# Altium footprint library LQFP32(7.0X7.0).PcbLib: 1 footprints
Each footprint in its own frame and in the unit in brackets; x right, y up, seen from the top. Pads: shape width x height; smd on the part's side, far side on the other; paste and mask are expansions set on the pad; w line width, h text height; cw(c..) or ccw(c..) is an arc to the next point about the centre after c.
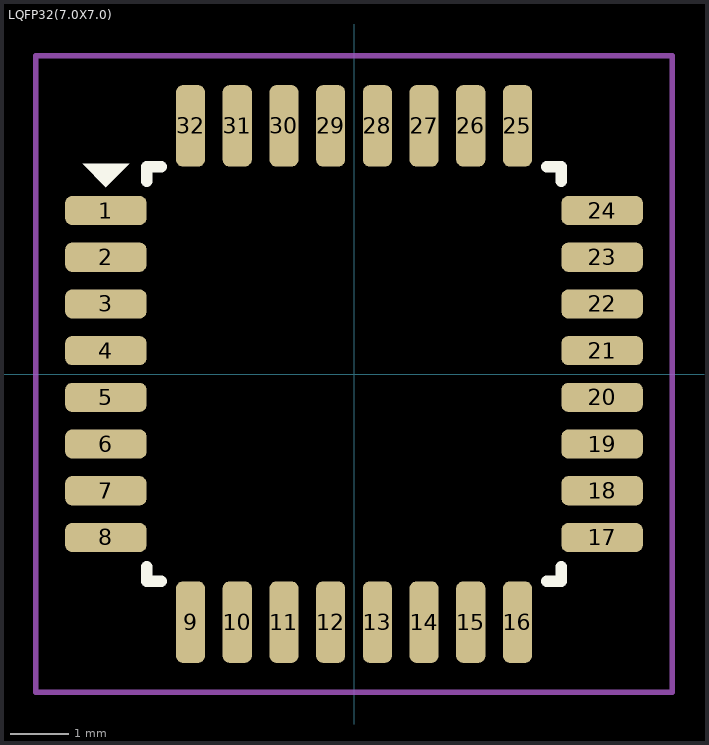
[diagram p0: the footprint, top view; thin cyan lines are the x and y axes]

## LQFP32(7.0X7.0) [mm]
pads (32):
  rrect50% 1.4x0.5 smd: 1(-4.25,2.8) 2(-4.25,2) 3(-4.25,1.2) 4(-4.25,0.4) 5(-4.25,-0.4) 6(-4.25,-1.2) 7(-4.25,-2) 8(-4.25,-2.8) 17(4.25,-2.8) 18(4.25,-2) 19(4.25,-1.2) 20(4.25,-0.4) 21(4.25,0.4) 22(4.25,1.2) 23(4.25,2) 24(4.25,2.8)
  rrect50% 0.5x1.4 smd: 9(-2.8,-4.25) 10(-2,-4.25) 11(-1.2,-4.25) 12(-0.4,-4.25) 13(0.4,-4.25) 14(1.2,-4.25) 15(2,-4.25) 16(2.8,-4.25) 25(2.8,4.25) 26(2,4.25) 27(1.2,4.25) 28(0.4,4.25) 29(-0.4,4.25) 30(-1.2,4.25) 31(-2,4.25) 32(-2.8,4.25)
Top Overlay:
  region: -4.65,3.6 -3.85,3.6 -4.25,3.2
  lines w0.2: -3.55,-3.3 -3.55,-3.55 -3.3,-3.55 ; -3.55,3.3 -3.55,3.55 -3.3,3.55 ; 3.3,-3.55 3.55,-3.55 3.55,-3.3 ; 3.3,3.55 3.55,3.55 3.55,3.3
Top Courtyard:
  lines w0.1: -5.45,-5.45 -5.45,5.45 5.45,5.45 5.45,-5.45 -5.45,-5.45
3D body "LQFP-32_STM.step": height 1.6, standoff 0, extent -4.496,-4.496 4.496,4.496